# EAGLE library part OVSTRGBBCR8 (library Rohit_Libs)
Full Color PLCC6 LED OVSTRGBBCR8 Source: www.optekinc.com .. ovstrgbbcr8.pdf
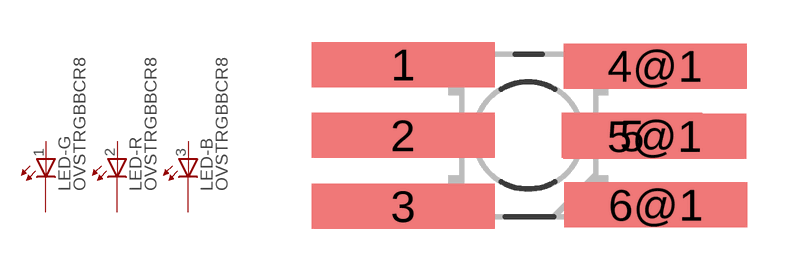
[diagram p8: symbol with the pads of OVSTRGBBCR8; footprint OVSTRGBBCR8]

Designator prefix LED; gates -G=LED-PAD-2K -R=LED-PAD-2K -B=LED-PAD-2K

## OVSTRGBBCR8  [OVSTRGBBCR8]
1  -G:A  pas
2  -R:A  pas
3  -B:A  pas
4@1  -G:C  pas
5@1  -R:C  pas
6@1  -B:C  pas

## Footprint OVSTRGBBCR8 (pad centres in mm)
Full Color PLCC6 LED OVSTRGBBCR8 Source: www.optekinc.com .. ovstrgbbcr8.pdf
smd 6.5 x 1.6: 1 -4.442,2.516; 2 -4.442,0; 3 -4.442,-2.516; 4@1 4.519,2.469; 5@1 4.499,-0.025; 6@1 4.544,-2.469
smd 5 x 1.6: 5 3.692,0